# Altium schematic symbol library pont H I298N.SchLib: 1 symbol
Pins are listed as number, name and electrical type; pins without a type are passive.

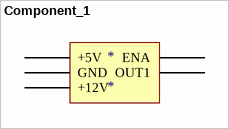
[diagram p0: symbol Component_1]

## Component_1
designator *
pins: ?1 +5V, ?2 GND, ?3 +12V, ?4 ENA, ?5 OUT1